# Altium schematic symbol library XHB-BOOMELE_2.5mm.SchLib: 3 symbols
Pins are listed as number, name and electrical type; pins without a type are passive.

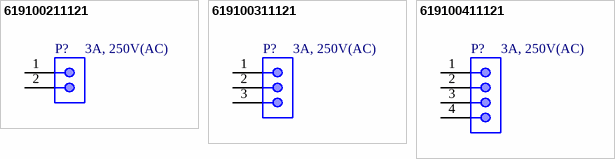
[diagram p0: symbols 619100211121 to 619100411121]

## 619100211121
designator P?, comment 3A, 250V(AC)
1x2P 2P 1 2.5mm 2 Brass Plugin,P=2.5mm Wire To Board / Wire To Wire Connector ROHS; Manufacturer: BOOMELE; Manufacturer Part Number: XHB-2A; Pin Number: 2; Contact Resistance: 20mOhm; Gender: Male; Withstanding Voltage: 1000VAC; Working Voltage: 250VAC; ComponentLink1Description: Datasheet; ComponentLink1URL: https://datasheet.lcsc.com/lcsc/2304140030_BOOMELE-Boom-Precision-Elec-XHB-2A_C57981.pdf?_gl=1*1vpiiy9*_ga*MTI1Mzk4MDEzNi4xNzAxOTIwNDk2*_ga_98M84MKSZH*MTcxMTUwNjkzMS4xNzQuMC4xNzExNTA2OTMxLjYwLjAuMA..; Pitch: 2.5mm; Packaging: Bag; Type: Vertical; Rated Current: 3A; Supplier 1 URL: N/A; Supplier 2 URL: N/A; Supplier 3 URL: https://www.thegioiic.com/dau-xhb-2a-2-54mm-2-chan-thang-xuyen-lo; Value: 3A, 250V(AC); LCSC Part #: C57981; Mount: THT; Operating Temperature Max: + 85 C; Operating Temperature Min: - 20 C; Package / Case: 2; Supplier 1: Mouser; Supplier 1 Part Number: N/A; Supplier 2: Digi-Key; Supplier 2 Part Number: N/A; Supplier 3: thegioiic; Supplier 3 Part Number: N/A
footprint 619100211121 (2.54mm Male Locking Header, 2p)
pins: 1, 2

## 619100311121
designator P?, comment 3A, 250V(AC)
1x3P 3P 1 2.5mm 3 Brass Plugin,P=2.5mm Wire To Board / Wire To Wire Connector ROHS /; Manufacturer: BOOMELE; Manufacturer Part Number: XHB-3A; Pin Number: 3; Contact Resistance: 20mOhm; Gender: Male; Withstanding Voltage: 1000VAC; Working Voltage: 250VAC; ComponentLink1Description: Datasheet; ComponentLink1URL: https://www.lcsc.com/datasheet/lcsc_datasheet_2304140030_JST-B2B-XH-A-LF-SN_C158012.pdf; Pitch: 2.5mm; Packaging: Bag; Type: Vertical; Rated Current: 3A; Supplier 1 URL: N/A; Supplier 2 URL: N/A; Supplier 3 URL: https://www.thegioiic.com/dau-xhb-3a-2-54mm-3-chan-thang-xuyen-lo; Value: 3A, 250V(AC); LCSC Part #: C68817; Mount: THT; Operating Temperature Max: + 85 C; Operating Temperature Min: - 20 C; Package / Case: 3; Supplier 1: Mouser; Supplier 1 Part Number: N/A; Supplier 2: Digi-Key; Supplier 2 Part Number: N/A; Supplier 3: thegioiic; Supplier 3 Part Number: N/A
footprint 619100311121 (2.54mm Male Locking Header, 3p)
pins: 1, 2, 3

## 619100411121
designator P?, comment 3A, 250V(AC)
1x4P 4P 1 2.5mm 4 Brass Plugin,P=2.5mm Wire To Board / Wire To Wire Connector ROHS; Manufacturer: BOOMELE; Manufacturer Part Number: XHB-4A; Pin Number: 4; Contact Resistance: 20mOhm; Gender: Male; Withstanding Voltage: 1000VAC; Working Voltage: 250VAC; ComponentLink1Description: Datasheet; ComponentLink1URL: https://www.lcsc.com/datasheet/lcsc_datasheet_2304140030_JST-B2B-XH-A-LF-SN_C158012.pdf; Pitch: 2.5mm; Packaging: Bag; Type: Vertical; Rated Current: 3A; Supplier 1 URL: N/A; Supplier 2 URL: N/A; Supplier 3 URL: https://www.thegioiic.com/dau-xhb-4a-2-54mm-4-chan-thang-xuyen-lo; Value: 3A, 250V(AC); LCSC Part #: C61277; Mount: THT; Operating Temperature Max: + 85 C; Operating Temperature Min: - 20 C; Package / Case: 4; Supplier 1: Mouser; Supplier 1 Part Number: N/A; Supplier 2: Digi-Key; Supplier 2 Part Number: N/A; Supplier 3: thegioiic; Supplier 3 Part Number: N/A
footprint 619100411121 (2.54mm Male Locking Header, 4p)
pins: 1, 2, 3, 4